# EAGLE library part USB4216-03-A (library USB4216-03-A)
USB Connectors USB C Receptacle, Short Body, USB2.0, 16Pin, Horizontal, SMT Source: Datasheet
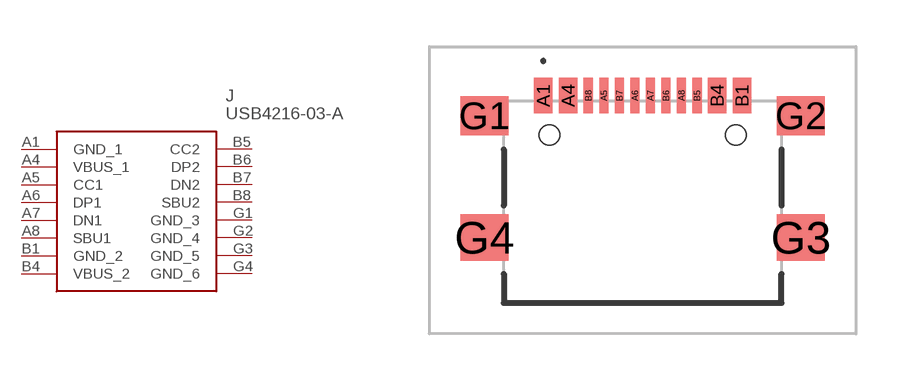
[diagram p0: symbol with the pads of USB421603A; footprint USB421603A]

Designator prefix J

## USB4216-03-A (Description: USB Connectors USB C Receptacle, Short Body, USB2.0, 16Pin, Horizontal, SMT; Height: mm; Manufacturer_Name: GCT (GLOBAL CONNECTOR TECHNOLOGY); Manufacturer_Part_Number: USB4216-03-A; Mouser_Part_Number: 640-USB4216-03-A; Mouser_Price-Stock: https://www.mouser.co.uk/ProductDetail/GCT/USB4216-03-A?qs=Tc%252BHE9vUsnv1G2UWLFIexA%3D%3D)  [USB421603A]
A1  GND_1
A4  VBUS_1
A5  CC1
A6  DP1
A7  DN1
A8  SBU1
B1  GND_2
B4  VBUS_2
B5  CC2
B6  DP2
B7  DN2
B8  SBU2
G1  GND_3
G2  GND_4
G3  GND_5
G4  GND_6

## Footprint USB421603A (pad centres in mm)
USB4216-03-A-3
smd 0.6 x 1.15: A1 -3.2,3.338; A4 -2.4,3.338; B1 3.2,3.338; B4 2.4,3.338
smd 0.3 x 1.15: A5 -1.25,3.338; A6 -0.25,3.338; A7 0.25,3.338; A8 1.25,3.338; B5 1.75,3.338; B6 0.75,3.338; B7 -0.75,3.338; B8 -1.75,3.338
smd 1.55 x 1.25: G1 -5.095,2.688; G2 5.095,2.688
smd 1.55 x 1.5: G3 5.095,-1.237; G4 -5.095,-1.237
hole 0.65 at -3,2.063
hole 0.65 at 3,2.063